# EAGLE library part CPCI_AB22- (library con-cpci)
Compact PCI AB 22 Source: www.erni.com
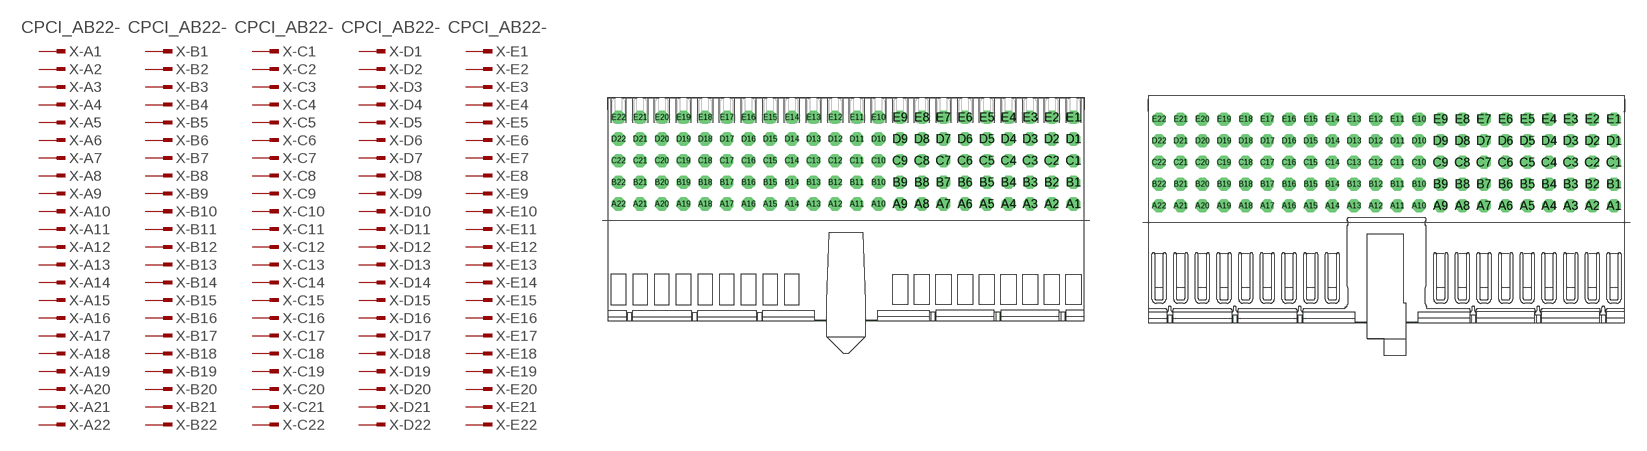
[diagram p6: symbol with the pads of 104933; footprints 104933, 114809]

Designator prefix X; gates -A1=PINV -B1=PINV -C1=PINV -D1=PINV -E1=PINV -A2=PIN -A3=PIN -A4=PIN -A5=PIN -A6=PIN -A7=PIN -A8=PIN -A9=PIN -A10=PIN -A11=PIN -A12=PIN -A13=PIN -A14=PIN -A15=PIN -A16=PIN -A17=PIN -A18=PIN -A19=PIN -A20=PIN -A21=PIN -A22=PIN -B2=PIN -B3=PIN -B4=PIN -B5=PIN -B6=PIN -B7=PIN -B8=PIN -B9=PIN -B10=PIN -B11=PIN -B12=PIN -B13=PIN -B14=PIN -B15=PIN -B16=PIN -B17=PIN -B18=PIN -B19=PIN -B20=PIN -B21=PIN -B22=PIN -C2=PIN -C3=PIN -C4=PIN -C5=PIN -C6=PIN -C7=PIN -C8=PIN -C9=PIN -C10=PIN -C11=PIN -C12=PIN -C13=PIN -C14=PIN -C15=PIN -C16=PIN -C17=PIN -C18=PIN -C19=PIN -C20=PIN -C21=PIN -C22=PIN -D2=PIN -D3=PIN -D4=PIN -D5=PIN -D6=PIN -D7=PIN -D8=PIN -D9=PIN -D10=PIN -D11=PIN -D12=PIN -D13=PIN -D14=PIN -D15=PIN -D16=PIN -D17=PIN -D18=PIN -D19=PIN -D20=PIN -D21=PIN -D22=PIN -E2=PIN -E3=PIN -E4=PIN -E5=PIN -E6=PIN -E7=PIN -E8=PIN -E9=PIN -E10=PIN -E11=PIN -E12=PIN -E13=PIN -E14=PIN -E15=PIN -E16=PIN -E17=PIN -E18=PIN -E19=PIN -E20=PIN -E21=PIN -E22=PIN

## CPCI_AB22-104933  [104933]
A1  -A1:1  in
A2  -A2:1  in
A3  -A3:1  in
A4  -A4:1  in
A5  -A5:1  in
A6  -A6:1  in
A7  -A7:1  in
A8  -A8:1  in
A9  -A9:1  in
A10  -A10:1  in
A11  -A11:1  in
A12  -A12:1  in
A13  -A13:1  in
A14  -A14:1  in
A15  -A15:1  in
A16  -A16:1  in
A17  -A17:1  in
A18  -A18:1  in
A19  -A19:1  in
A20  -A20:1  in
A21  -A21:1  in
A22  -A22:1  in
B1  -B1:1  in
B2  -B2:1  in
B3  -B3:1  in
B4  -B4:1  in
B5  -B5:1  in
B6  -B6:1  in
B7  -B7:1  in
B8  -B8:1  in
B9  -B9:1  in
B10  -B10:1  in
B11  -B11:1  in
B12  -B12:1  in
B13  -B13:1  in
B14  -B14:1  in
B15  -B15:1  in
B16  -B16:1  in
B17  -B17:1  in
B18  -B18:1  in
B19  -B19:1  in
B20  -B20:1  in
B21  -B21:1  in
B22  -B22:1  in
C1  -C1:1  in
C2  -C2:1  in
C3  -C3:1  in
C4  -C4:1  in
C5  -C5:1  in
C6  -C6:1  in
C7  -C7:1  in
C8  -C8:1  in
C9  -C9:1  in
C10  -C10:1  in
C11  -C11:1  in
C12  -C12:1  in
C13  -C13:1  in
C14  -C14:1  in
C15  -C15:1  in
C16  -C16:1  in
C17  -C17:1  in
C18  -C18:1  in
C19  -C19:1  in
C20  -C20:1  in
C21  -C21:1  in
C22  -C22:1  in
D1  -D1:1  in
D2  -D2:1  in
D3  -D3:1  in
D4  -D4:1  in
D5  -D5:1  in
D6  -D6:1  in
D7  -D7:1  in
D8  -D8:1  in
D9  -D9:1  in
D10  -D10:1  in
D11  -D11:1  in
D12  -D12:1  in
D13  -D13:1  in
D14  -D14:1  in
D15  -D15:1  in
D16  -D16:1  in
D17  -D17:1  in
D18  -D18:1  in
D19  -D19:1  in
D20  -D20:1  in
D21  -D21:1  in
D22  -D22:1  in
E1  -E1:1  in
E2  -E2:1  in
E3  -E3:1  in
E4  -E4:1  in
E5  -E5:1  in
E6  -E6:1  in
E7  -E7:1  in
E8  -E8:1  in
E9  -E9:1  in
E10  -E10:1  in
E11  -E11:1  in
E12  -E12:1  in
E13  -E13:1  in
E14  -E14:1  in
E15  -E15:1  in
E16  -E16:1  in
E17  -E17:1  in
E18  -E18:1  in
E19  -E19:1  in
E20  -E20:1  in
E21  -E21:1  in
E22  -E22:1  in

## CPCI_AB22-114809  [114809]
Pads as for 104933

## Footprint 104933 (pad centres in mm)
ERmet Federleiste AB 22 / ERmet Female Type AB 22 Source: http://www.erni.com/DB/PDF-Drawing/ERmet/104933.pdf
drill 0.7 pad 1.016 octagon: A1 21,1.5; A2 19,1.5; A3 17,1.5; A4 15,1.5; A5 13,1.5; A6 11,1.5; A7 9,1.5; A8 7,1.5; A9 5,1.5; A10 3,1.5; A11 1,1.5; A12 -1,1.5; A13 -3,1.5; A14 -5,1.5; A15 -7,1.5; A16 -9,1.5; A17 -11,1.5; A18 -13,1.5; A19 -15,1.5; A20 -17,1.5; A21 -19,1.5; A22 -21,1.5; B1 21,3.5; B2 19,3.5; B3 17,3.5; B4 15,3.5; B5 13,3.5; B6 11,3.5; B7 9,3.5; B8 7,3.5; B9 5,3.5; B10 3,3.5; B11 1,3.5; B12 -1,3.5; B13 -3,3.5; B14 -5,3.5; B15 -7,3.5; B16 -9,3.5; B17 -11,3.5; B18 -13,3.5; B19 -15,3.5; B20 -17,3.5; B21 -19,3.5; B22 -21,3.5; C1 21,5.5; C2 19,5.5; C3 17,5.5; C4 15,5.5; C5 13,5.5; C6 11,5.5; C7 9,5.5; C8 7,5.5; C9 5,5.5; C10 3,5.5; C11 1,5.5; C12 -1,5.5; C13 -3,5.5; C14 -5,5.5; C15 -7,5.5; C16 -9,5.5; C17 -11,5.5; C18 -13,5.5; C19 -15,5.5; C20 -17,5.5; C21 -19,5.5; C22 -21,5.5; D1 21,7.5; D2 19,7.5; D3 17,7.5; D4 15,7.5; D5 13,7.5; D6 11,7.5; D7 9,7.5; D8 7,7.5; D9 5,7.5; D10 3,7.5; D11 1,7.5; D12 -1,7.5; D13 -3,7.5; D14 -5,7.5; D15 -7,7.5; D16 -9,7.5; D17 -11,7.5; D18 -13,7.5; D19 -15,7.5; D20 -17,7.5; D21 -19,7.5; D22 -21,7.5; E1 21,9.5; E2 19,9.5; E3 17,9.5; E4 15,9.5; E5 13,9.5; E6 11,9.5; E7 9,9.5; E8 7,9.5; E9 5,9.5; E10 3,9.5; E11 1,9.5; E12 -1,9.5; E13 -3,9.5; E14 -5,9.5; E15 -7,9.5; E16 -9,9.5; E17 -11,9.5; E18 -13,9.5; E19 -15,9.5; E20 -17,9.5; E21 -19,9.5; E22 -21,9.5

## Footprint 114809 (pad centres in mm)
ERmet Federleiste AB 22 / ERmet Female Type AB 22 Source: http://www.erni.com/DB/PDF-Drawing/ERmet/114809.pdf
drill 0.7 pad 1.016 octagon: A1 189,-71.5; A2 187,-71.5; A3 185,-71.5; A4 183,-71.5; A5 181,-71.5; A6 179,-71.5; A7 177,-71.5; A8 175,-71.5; A9 173,-71.5; A10 171,-71.5; A11 169,-71.5; A12 167,-71.5; A13 165,-71.5; A14 163,-71.5; A15 161,-71.5; A16 159,-71.5; A17 157,-71.5; A18 155,-71.5; A19 153,-71.5; A20 151,-71.5; A21 149,-71.5; A22 147,-71.5; B1 189,-69.5; B2 187,-69.5; B3 185,-69.5; B4 183,-69.5; B5 181,-69.5; B6 179,-69.5; B7 177,-69.5; B8 175,-69.5; B9 173,-69.5; B10 171,-69.5; B11 169,-69.5; B12 167,-69.5; B13 165,-69.5; B14 163,-69.5; B15 161,-69.5; B16 159,-69.5; B17 157,-69.5; B18 155,-69.5; B19 153,-69.5; B20 151,-69.5; B21 149,-69.5; B22 147,-69.5; C1 189,-67.5; C2 187,-67.5; C3 185,-67.5; C4 183,-67.5; C5 181,-67.5; C6 179,-67.5; C7 177,-67.5; C8 175,-67.5; C9 173,-67.5; C10 171,-67.5; C11 169,-67.5; C12 167,-67.5; C13 165,-67.5; C14 163,-67.5; C15 161,-67.5; C16 159,-67.5; C17 157,-67.5; C18 155,-67.5; C19 153,-67.5; C20 151,-67.5; C21 149,-67.5; C22 147,-67.5; D1 189,-65.5; D2 187,-65.5; D3 185,-65.5; D4 183,-65.5; D5 181,-65.5; D6 179,-65.5; D7 177,-65.5; D8 175,-65.5; D9 173,-65.5; D10 171,-65.5; D11 169,-65.5; D12 167,-65.5; D13 165,-65.5; D14 163,-65.5; D15 161,-65.5; D16 159,-65.5; D17 157,-65.5; D18 155,-65.5; D19 153,-65.5; D20 151,-65.5; D21 149,-65.5; D22 147,-65.5; E1 189,-63.5; E2 187,-63.5; E3 185,-63.5; E4 183,-63.5; E5 181,-63.5; E6 179,-63.5; E7 177,-63.5; E8 175,-63.5; E9 173,-63.5; E10 171,-63.5; E11 169,-63.5; E12 167,-63.5; E13 165,-63.5; E14 163,-63.5; E15 161,-63.5; E16 159,-63.5; E17 157,-63.5; E18 155,-63.5; E19 153,-63.5; E20 151,-63.5; E21 149,-63.5; E22 147,-63.5